# EAGLE library part TEENSY3.6 (library NUSTARS ADS Library)
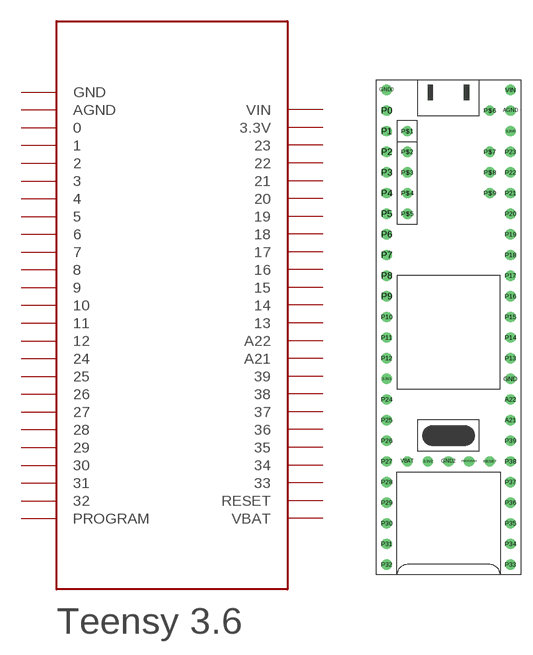
[diagram p0: symbol with the pads of TEENSY3.6; footprint TEENSY3.6]

Designator prefix -

## TEENSY3.6  [TEENSY3.6]
3.3V0  3.3V
3.3V1  3.3V
3.3V2  3.3V
A21  A21
A22  A22
AGND  AGND
GND  GND
GND0  GND
GND2  GND
P0  0
P1  1
P2  2
P3  3
P4  4
P5  5
P6  6
P7  7
P8  8
P9  9
P10  10
P11  11
P12  12
P13  13
P14  14
P15  15
P16  16
P17  17
P18  18
P19  19
P20  20
P21  21
P22  22
P23  23
P24  24
P25  25
P26  26
P27  27
P28  28
P29  29
P30  30
P31  31
P32  32
P33  33
P34  34
P35  35
P36  36
P37  37
P38  38
P39  39
PROGRAM  PROGRAM
RESET  RESET
VBAT  VBAT
VIN  VIN

## Footprint TEENSY3.6 (pad centres in mm)
drill 0.75 pad 1.27: 3.3V0 16.51,54.61; 3.3V1 1.27,24.13; 3.3V2 6.35,13.97; A21 16.51,19.05; A22 16.51,21.59; AGND 16.51,57.15; GND 16.51,24.13; GND0 1.27,59.69; GND2 8.89,13.97; P0 1.27,57.15; P1 1.27,54.61; P2 1.27,52.07; P3 1.27,49.53; P4 1.27,46.99; P5 1.27,44.45; P6 1.27,41.91; P7 1.27,39.37; P8 1.27,36.83; P9 1.27,34.29; P10 1.27,31.75; P11 1.27,29.21; P12 1.27,26.67; P13 16.51,26.67; P14 16.51,29.21; P15 16.51,31.75; P16 16.51,34.29; P17 16.51,36.83; P18 16.51,39.37; P19 16.51,41.91; P20 16.51,44.45; P21 16.51,46.99; P22 16.51,49.53; P23 16.51,52.07; P24 1.27,21.59; P25 1.27,19.05; P26 1.27,16.51; P27 1.27,13.97; P28 1.27,11.43; P29 1.27,8.89; P30 1.27,6.35; P31 1.27,3.81; P32 1.27,1.27; P33 16.51,1.27; P34 16.51,3.81; P35 16.51,6.35; P36 16.51,8.89; P37 16.51,11.43; P38 16.51,13.97; P39 16.51,16.51; P$1 3.81,54.61; P$2 3.81,52.07; P$3 3.81,49.53; P$4 3.81,46.99; P$5 3.81,44.45; P$6 13.97,57.15; P$7 13.97,52.07; P$8 13.97,49.53; P$9 13.97,46.99; PROGRAM 11.43,13.97; RESET 13.97,13.97; VBAT 3.81,13.97; VIN 16.51,59.69